# Altium integrated library Nixie Tubes.IntLib: 5 symbols
Pins are listed as number, name and electrical type; pins without a type are passive.

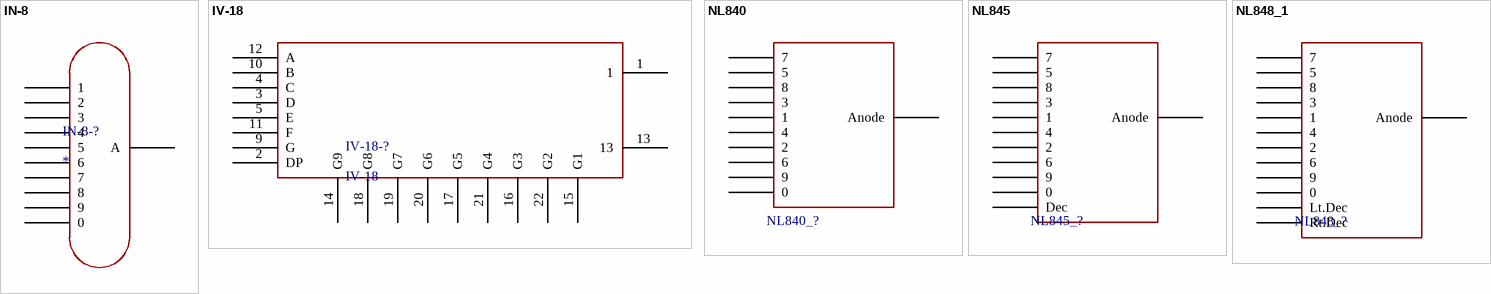
[diagram p0: symbols IN-8 to NL848_1]

## IN-8
designator IN-8-?
footprint IN-8
pins: 0, 1, 2, 3, 4, 5, 6, 7, 8, 9, A

## IV-18
designator IV-18-?
footprint IV18
pins: 1, 2 DP, 3 D, 4 C, 5 E, 6 hidden, 7 hidden, 8 hidden, 9 G, 10 B, 11 F, 12 A, 13, 14 G9, 15 G1, 16 G3, 17 G5, 18 G8, 19 G7, 20 G6, 21 G4, 22 G2

## NL840
designator NL840_?, comment NL840 NIXIE TUBE  (value not drawn)
footprint NL840
pins: 1 7, 2 5, 3 8, 4 Anode, 5 1, 6 4, 7 2, 8 6, 9, 10 3, 13 0

## NL845
designator NL845_?, comment NL845 NIXIE TUBE  (value not drawn)
footprint NL848
pins: 1 7, 2 5, 3 8, 4 Anode, 5 1, 6 4, 7 2, 8 6, 9, 10 3, 11 Dec, 13 0

## NL848_1
designator NL848_?, comment NL848 NIXIE TUBE  (value not drawn)
footprint NL848
footprint NL848 - duplicate
pins: 1 7, 2 5, 3 8, 4 Anode, 5 1, 6 4, 7 2, 8 6, 9, 10 3, 11 Lt.Dec, 12 Rt.Dec, 13 0